# Altium footprint library TO-252.PcbLib: 1 footprints
Each footprint in its own frame and in the unit in brackets; x right, y up, seen from the top. Pads: shape width x height; smd on the part's side, far side on the other; paste and mask are expansions set on the pad; w line width, h text height; cw(c..) or ccw(c..) is an arc to the next point about the centre after c.
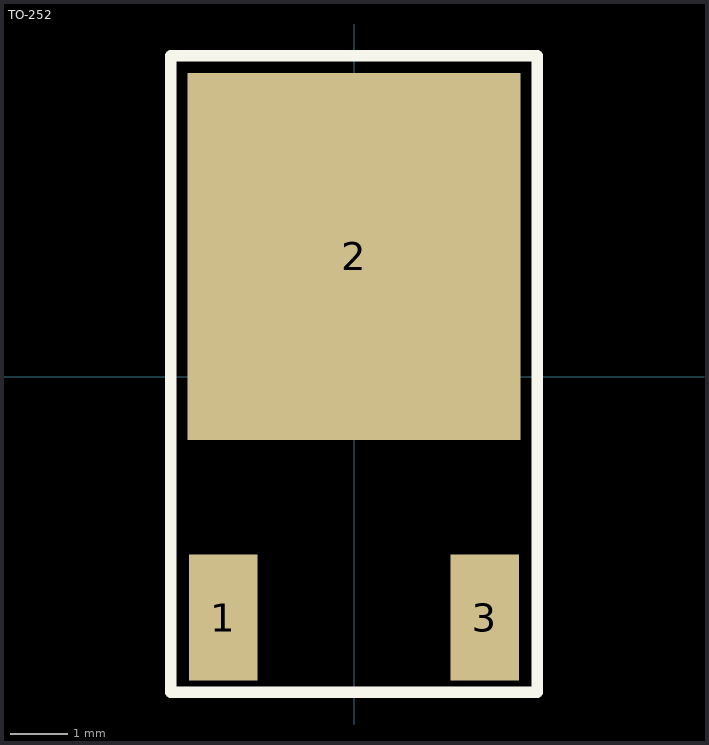
[diagram p0: the footprint, top view; thin cyan lines are the x and y axes]

## TO-252 [mm]
height 1.1
pads (3):
  rect 1.2x2.2 smd: 1(-2.28,-4.2) 3(2.28,-4.2)
  rect 5.8x6.4 smd: 2(0,2.1)
Top Overlay:
  lines w0.2: -3.2,-5.5 -3.2,5.6 3.2,5.6 3.2,-5.5 -3.2,-5.5
Top Assembly:
  lines w0.1: -3.2,-5.5 3.2,-5.5 3.2,2 3.2,4.9 3.2,5.6 -3.2,5.6 -3.2,-5.5
  lines w0.2: -0.25,0 0.25,0 ; 0,-0.25 0,0.25
  text "'.Designator'" at 0,0 h0.7
3D body "CircuitWorks-TO-252.STEP": height 2.3, standoff 0, extent -3.29,-4.773 3.29,4.927